# Altium schematic symbol library IRF7416TRPBF.SchLib: 1 symbol
Pins are listed as number, name and electrical type; pins without a type are passive.

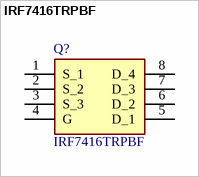
[diagram p0: symbol IRF7416TRPBF]

## IRF7416TRPBF
designator Q?
INFINEON - IRF7416TRPBF - MOSFET Transistor, P Channel, 10 A, 30 V, 0.02 ohm, 10 V, 2.04 V; Geometry.Height: 1.75mm; Mouser Part Number: 942-IRF7416TRPBF; Mouser Price/Stock: https://www.mouser.co.uk/ProductDetail/Infineon-Technologies/IRF7416TRPBF?qs=9%252BKlkBgLFf1tuhXoEVAcyA%3D%3D; Manufacturer_Name: Infineon; Manufacturer_Part_Number: IRF7416TRPBF; Datasheet Link: https://componentsearchengine.com/Datasheets/2/IRF7416TRPBF.pdf
footprint SOIC127P600X175-8N
pins: 1 S_1, 2 S_2, 3 S_3, 4 G, 5 D_1, 6 D_2, 7 D_3, 8 D_4